# EAGLE library part S14B-PUDSS-1 (library con-jst-pud)
JST connector, PUD series, 2.0mm spacing, crimp style, wire-to-board, 14 pin, side entry
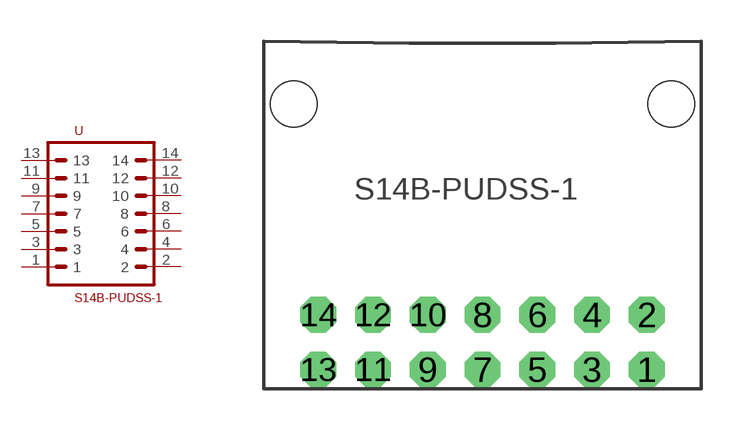
[diagram p7: symbol with the pads of PUD_14_PIN_SIDE_ENTRY; footprint PUD_14_PIN_SIDE_ENTRY]

Designator prefix -

## S14B-PUDSS-1 (DIGKEY: 455-2488-ND; MF: JST; MPN: S14B-PUDSS-1)  [PUD_14_PIN_SIDE_ENTRY]
1  1
2  2
3  3
4  4
5  5
6  6
7  7
8  8
9  9
10  10
11  11
12  12
13  13
14  14

## Footprint PUD_14_PIN_SIDE_ENTRY (pad centres in mm)
drill 0.8 octagon: 1 6,-6; 2 6,-4; 3 4,-6; 4 4,-4; 5 2,-6; 6 2,-4; 7 0,-6; 8 0,-4; 9 -2,-6; 10 -2,-4; 11 -4,-6; 12 -4,-4; 13 -6,-6; 14 -6,-4
hole 1.7 at 6.9,3.7
hole 1.7 at -6.9,3.7